# Altium schematic symbol library BAP64Q.Schlib: 1 symbol
Pins are listed as number, name and electrical type; pins without a type are passive.

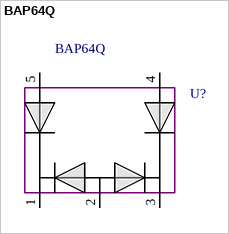
[diagram p0: symbol BAP64Q]

## BAP64Q
designator U?
4 PIN diode attenuator
pins: 1, 2, 3, 4, 5
2 alternate drawings of the same symbol